# Altium integrated library Dallas Power Mgt Switching Circuit.IntLib: 4 symbols
Pins are listed as number, name and electrical type; pins without a type are passive.

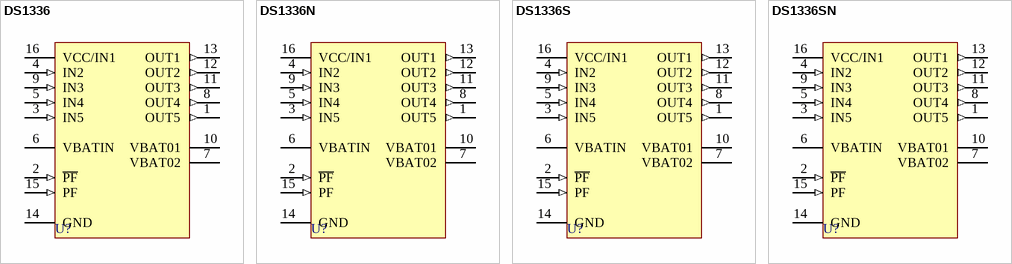
[diagram p0: symbols DS1336 to DS1336SN]

## DS1336
designator U?
Afterburner Chip; PackageDocument: 1999; Published: 13-Oct-2000; LatestRevisionDate: 06-Jun-2005; LatestRevisionNote: Stylized 3D Model Added.; DatasheetDocument: 6-May-1999; PackageReference: DIP16; Publisher: Altium Limited; ComponentLink1Description: Manufacturer Link; ComponentLink1URL: http://www.maxim-ic.com/; ComponentLink2Description: Datasheet; ComponentLink2URL: http://pdfserv.maxim-ic.com/en/ds/DS1336.pdf
footprint DIP16 (DIP; 16 Leads; Row Spacing 7.62 mm; Pitch 2.54 mm)
3D model DIP16 (DIP; 16 Leads; Row Spacing 7.62 mm; Pitch 2.54 mm)
pins: 1 OUT5 (out), 2 ~{PF} (in), 3 IN5 (in), 4 IN2 (in), 5 IN4 (in), 6 VBATIN (power), 7 VBAT02, 8 OUT4 (out), 9 IN3 (in), 10 VBAT01 (power), 11 OUT3 (out), 12 OUT2 (out), 13 OUT1 (out), 14 GND (power), 15 PF (in), 16 VCC/IN1 (power)

## DS1336N
designator U?
Afterburner Chip; PackageDocument: 1999; Published: 13-Oct-2000; LatestRevisionDate: 06-Jun-2005; LatestRevisionNote: Stylized 3D Model Added.; DatasheetDocument: 6-May-1999; PackageReference: DIP16; Publisher: Altium Limited; ComponentLink1Description: Manufacturer Link; ComponentLink1URL: http://www.maxim-ic.com/; ComponentLink2Description: Datasheet; ComponentLink2URL: http://pdfserv.maxim-ic.com/en/ds/DS1336.pdf
footprint DIP16 (DIP; 16 Leads; Row Spacing 7.62 mm; Pitch 2.54 mm)
3D model DIP16 (DIP; 16 Leads; Row Spacing 7.62 mm; Pitch 2.54 mm)
pins: 1 OUT5 (out), 2 ~{PF} (in), 3 IN5 (in), 4 IN2 (in), 5 IN4 (in), 6 VBATIN (power), 7 VBAT02, 8 OUT4 (out), 9 IN3 (in), 10 VBAT01 (power), 11 OUT3 (out), 12 OUT2 (out), 13 OUT1 (out), 14 GND (power), 15 PF (in), 16 VCC/IN1 (power)

## DS1336S
designator U?
Afterburner Chip; PackageDocument: 1999; Published: 13-Oct-2000; LatestRevisionDate: 06-Jun-2005; LatestRevisionNote: Stylized 3D Model Added.; DatasheetDocument: 6-May-1999; PackageReference: SOIC16W; Publisher: Altium Limited; ComponentLink1Description: Manufacturer Link; ComponentLink1URL: http://www.maxim-ic.com/; ComponentLink2Description: Datasheet; ComponentLink2URL: http://pdfserv.maxim-ic.com/en/ds/DS1336.pdf
footprint SOIC16W (Small Outline; 16 Leads; Body Width 7.5 mm; Pitch 1.27 mm)
3D model SOIC16W (Small Outline; 16 Leads; Body Width 7.5 mm; Pitch 1.27 mm)
pins: 1 OUT5 (out), 2 ~{PF} (in), 3 IN5 (in), 4 IN2 (in), 5 IN4 (in), 6 VBATIN (power), 7 VBAT02, 8 OUT4 (out), 9 IN3 (in), 10 VBAT01 (power), 11 OUT3 (out), 12 OUT2 (out), 13 OUT1 (out), 14 GND (power), 15 PF (in), 16 VCC/IN1 (power)

## DS1336SN
designator U?
Afterburner Chip; PackageDocument: 1999; Published: 13-Oct-2000; LatestRevisionDate: 06-Jun-2005; LatestRevisionNote: Stylized 3D Model Added.; DatasheetDocument: 6-May-1999; PackageReference: SOIC16W; Publisher: Altium Limited; ComponentLink1Description: Manufacturer Link; ComponentLink1URL: http://www.maxim-ic.com/; ComponentLink2Description: Datasheet; ComponentLink2URL: http://pdfserv.maxim-ic.com/en/ds/DS1336.pdf
footprint SOIC16W (Small Outline; 16 Leads; Body Width 7.5 mm; Pitch 1.27 mm)
3D model SOIC16W (Small Outline; 16 Leads; Body Width 7.5 mm; Pitch 1.27 mm)
pins: 1 OUT5 (out), 2 ~{PF} (in), 3 IN5 (in), 4 IN2 (in), 5 IN4 (in), 6 VBATIN (power), 7 VBAT02, 8 OUT4 (out), 9 IN3 (in), 10 VBAT01 (power), 11 OUT3 (out), 12 OUT2 (out), 13 OUT1 (out), 14 GND (power), 15 PF (in), 16 VCC/IN1 (power)